# EAGLE library part XH_6P (library user_conector)
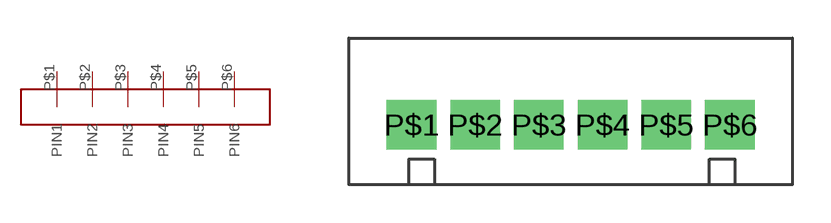
[diagram p9: symbol with the pads of XH_6P; footprint XH_6P]

Designator prefix CON

## XH_6P  [XH_6P]
P$1  PIN1
P$2  PIN2
P$3  PIN3
P$4  PIN4
P$5  PIN5
P$6  PIN6

## Footprint XH_6P (pad centres in mm)
drill 1.3 square: P$1 2.45,2.35; P$2 4.95,2.35; P$3 7.45,2.35; P$4 9.95,2.35; P$5 12.45,2.35; P$6 14.95,2.35